# Altium integrated library stm32f4x9.IntLib: 24 symbols
Pins are listed as number, name and electrical type; pins without a type are passive.

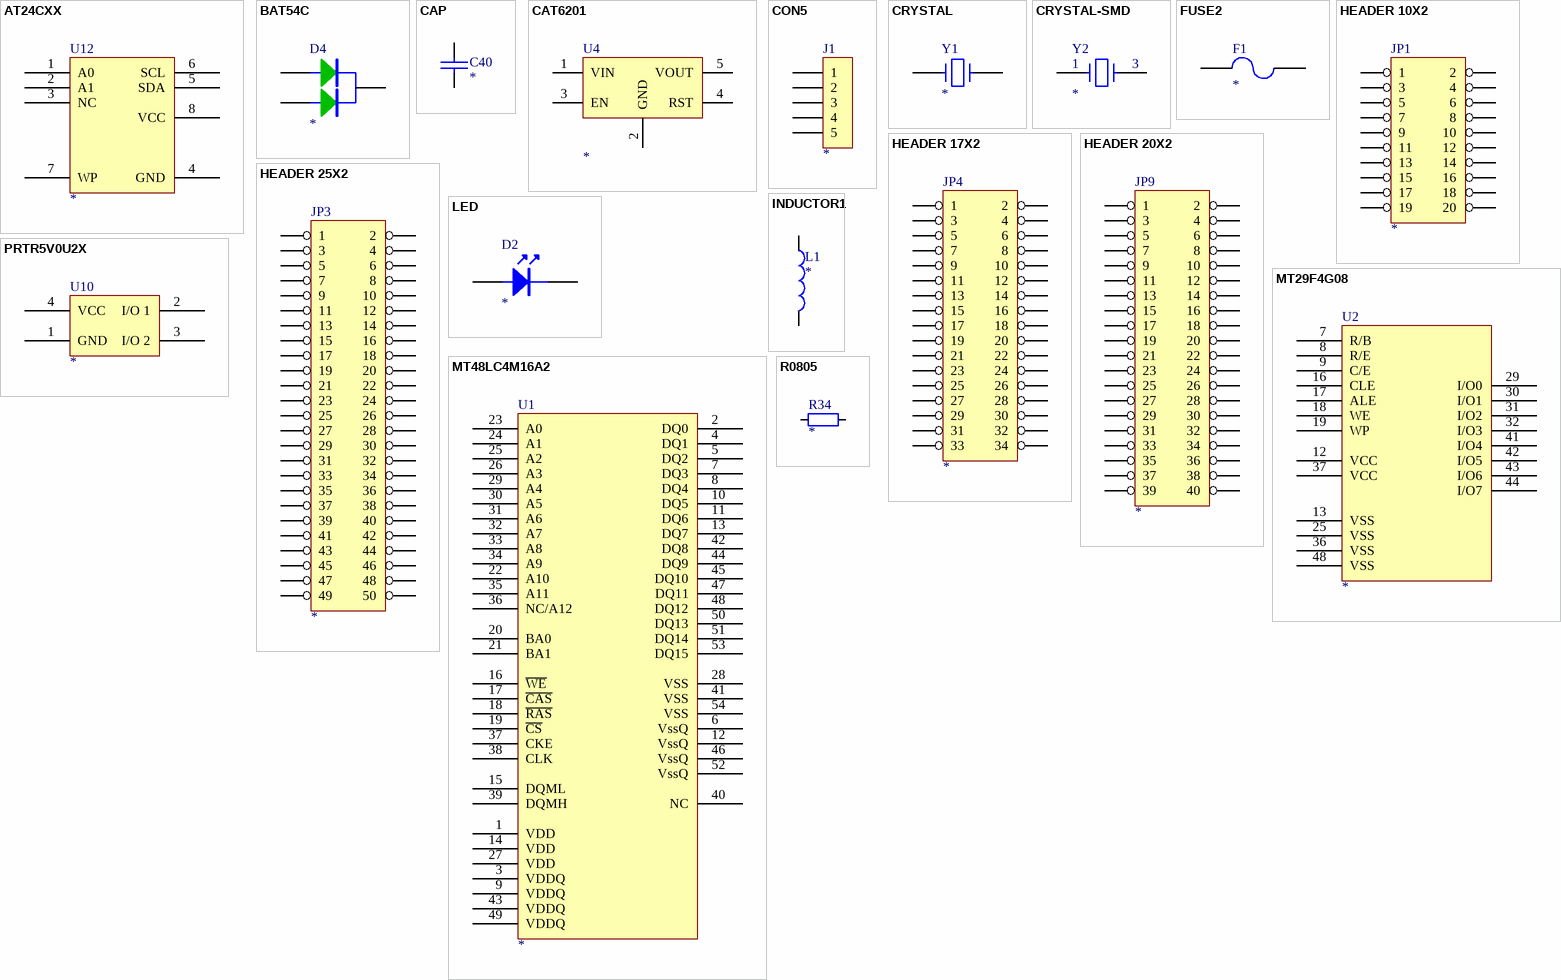
[diagram p0: symbols AT24CXX to R0805]

## AT24CXX
designator U12
footprint SO_8
pins: 1 A0, 2 A1, 3 NC, 4 GND, 5 SDA, 6 SCL, 7 WP, 8 VCC
2 alternate drawings of the same symbol

## BAT54C
designator D4
footprint SOT_23
pins: 1, 2, 3
2 alternate drawings of the same symbol

## CAP
designator C40
footprint 0603_C
pins: 1, 2
2 alternate drawings of the same symbol

## CAT6201
designator U4
CAT6219
footprint Model Name
footprint SOT23-5
pins: 1 VIN, 2 GND, 3 EN, 4 RST, 5 VOUT
2 alternate drawings of the same symbol

## CON5
designator J1
Connector
footprint SIP5
pins: 1, 2, 3, 4, 5
2 alternate drawings of the same symbol

## CRYSTAL
designator Y1
Crystal
footprint FC-135
pins: 1, 2
2 alternate drawings of the same symbol

## CRYSTAL-SMD
designator Y2
Crystal
footprint XTAL-SMD
footprint XTAL-3225
pins: 1, 3
2 alternate drawings of the same symbol

## FUSE2
designator F1
Fuse
footprint 1206_R
pins: 1, 2
2 alternate drawings of the same symbol

## HEADER 10X2
designator JP1
footprint SIP-20-1.27
pins: 1, 2, 3, 4, 5, 6, 7, 8, 9, 10, 11, 12, 13, 14, 15, 16, 17, 18, 19, 20
2 alternate drawings of the same symbol

## HEADER 17X2
designator JP4
footprint SIP-34-1.27
pins: 1, 2, 3, 4, 5, 6, 7, 8, 9, 10, 11, 12, 13, 14, 15, 16, 17, 18, 19, 20, 21, 22, 23, 24, 25, 26, 27, 28, 29, 30, 31, 32, 33, 34
2 alternate drawings of the same symbol

## HEADER 20X2
designator JP9
footprint LCD-40PIN - DOWM
pins: 1, 2, 3, 4, 5, 6, 7, 8, 9, 10, 11, 12, 13, 14, 15, 16, 17, 18, 19, 20, 21, 22, 23, 24, 25, 26, 27, 28, 29, 30, 31, 32, 33, 34, 35, 36, 37, 38, 39, 40
2 alternate drawings of the same symbol

## HEADER 25X2
designator JP3
footprint SIP-50-1.27
pins: 1, 2, 3, 4, 5, 6, 7, 8, 9, 10, 11, 12, 13, 14, 15, 16, 17, 18, 19, 20, 21, 22, 23, 24, 25, 26, 27, 28, 29, 30, 31, 32, 33, 34, 35, 36, 37, 38, 39, 40, 41, 42, 43, 44, 45, 46, 47, 48, 49, 50
2 alternate drawings of the same symbol

## INDUCTOR1
designator L1
footprint 0603_R
pins: 1, 2
2 alternate drawings of the same symbol

## LED
designator D2
footprint LED
footprint 0603_LED
pins: 1 A, 2 K
2 alternate drawings of the same symbol

## MT29F4G08
designator U2
footprint TSOP48P\0.5
pins: 7 R/B, 8 R/E, 9 C/E, 12 VCC, 13 VSS, 16 CLE, 17 ALE, 18 WE, 19 WP, 25 VSS, 29 I/O0, 30 I/O1, 31 I/O2, 32 I/O3, 36 VSS, 37 VCC, 41 I/O4, 42 I/O5, 43 I/O6, 44 I/O7, 48 VSS
2 alternate drawings of the same symbol

## MT48LC4M16A2
designator U1
footprint TSOP54/463
pins: 1 VDD, 2 DQ0, 3 VDDQ, 4 DQ1, 5 DQ2, 6 VssQ, 7 DQ3, 8 DQ4, 9 VDDQ, 10 DQ5, 11 DQ6, 12 VssQ, 13 DQ7, 14 VDD, 15 DQML, 16 ~{WE}, 17 ~{CAS}, 18 ~{RAS}, 19 ~{CS}, 20 BA0, 21 BA1, 22 A10, 23 A0, 24 A1, 25 A2, 26 A3, 27 VDD, 28 VSS, 29 A4, 30 A5, 31 A6, 32 A7, 33 A8, 34 A9, 35 A11, 36 NC/A12, 37 CKE, 38 CLK, 39 DQMH, 40 NC, 41 VSS, 42 DQ8, 43 VDDQ, 44 DQ9, 45 DQ10, 46 VssQ, 47 DQ11, 48 DQ12, 49 VDDQ, 50 DQ13, 51 DQ14, 52 VssQ, 53 DQ15, 54 VSS
2 alternate drawings of the same symbol

## PRTR5V0U2X
designator U10
footprint SOT_143_4L
pins: 1 GND, 2 I/O 1, 3 I/O 2, 4 VCC
2 alternate drawings of the same symbol

## R0805
designator R34
Resistor 0805; Catalog/Distributor: *; Description in catalog: *; ID in cataloge: *; Min. order qty: *; Price per unit: *
footprint 2012[0805]
footprint 0603_R
pins: 1, 2
2 alternate drawings of the same symbol

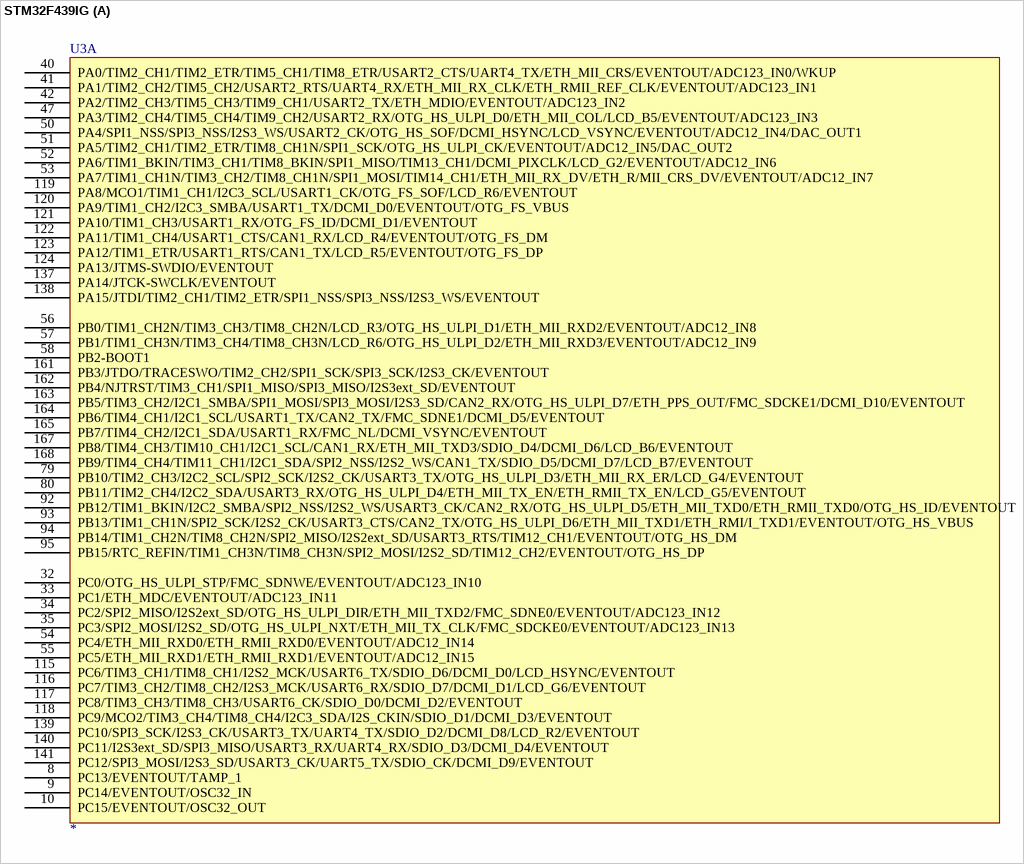
[diagram p1: symbol STM32F439IG]

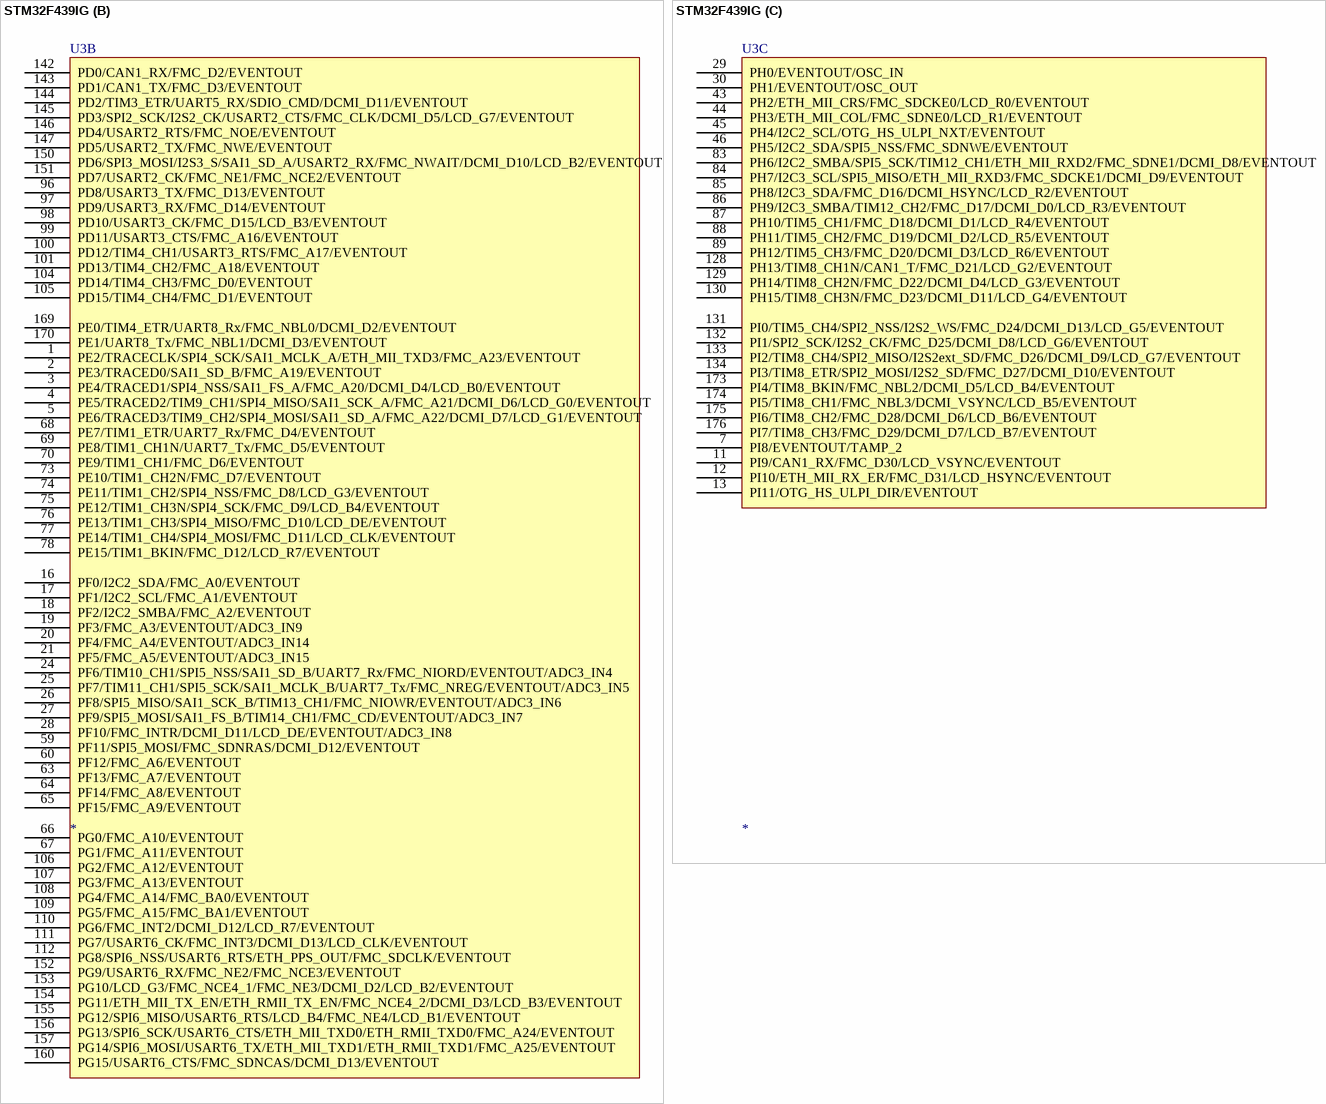
[diagram p2: symbol STM32F439IG]

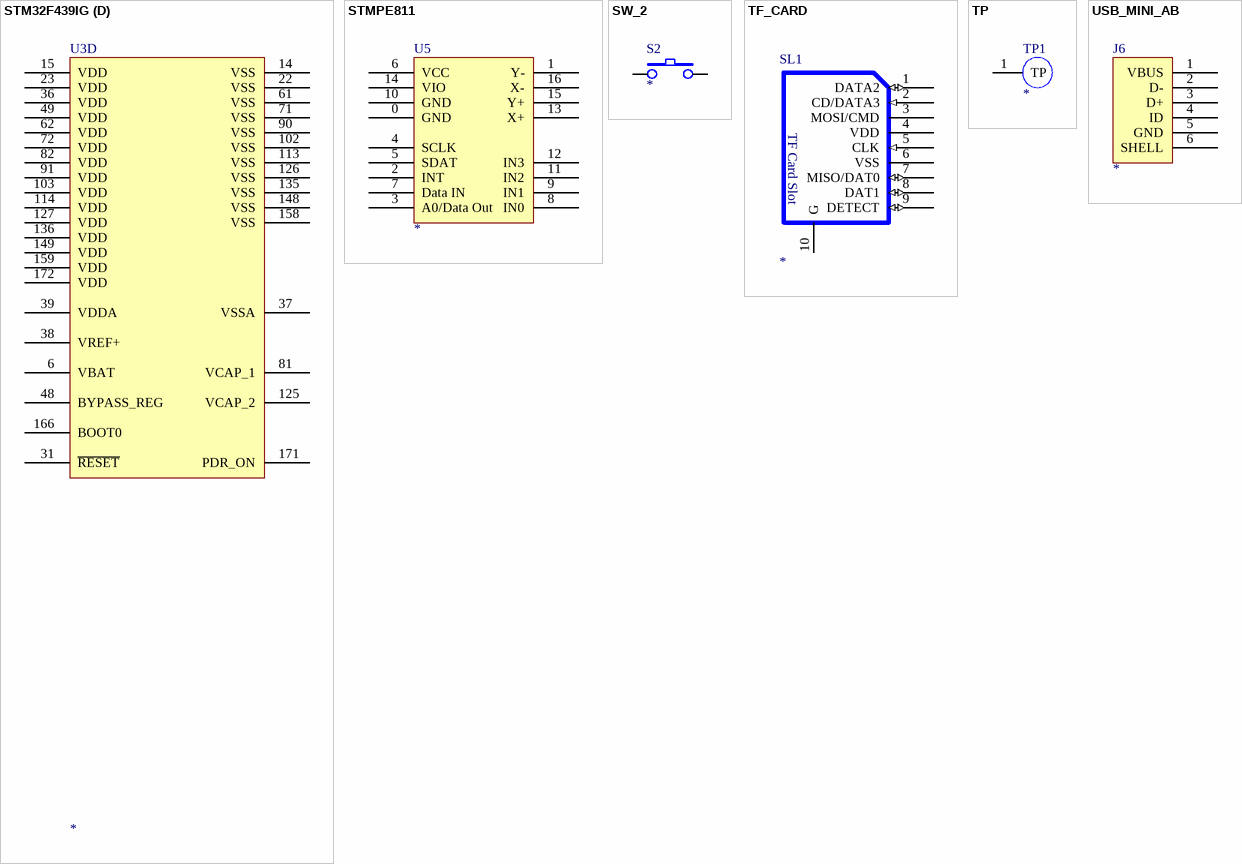
[diagram p3: symbols STM32F439IG to USB_MINI_AB]

## STM32F439IG
designator U3
footprint LQFP176
part A pins: 8 PC13/EVENTOUT/TAMP_1, 9 PC14/EVENTOUT/OSC32_IN, 10 PC15/EVENTOUT/OSC32_OUT, 32 PC0/OTG_HS_ULPI_STP/FMC_SDNWE/EVENTOUT/ADC123_IN10, 33 PC1/ETH_MDC/EVENTOUT/ADC123_IN11, 34 PC2/SPI2_MISO/I2S2ext_SD/OTG_HS_ULPI_DIR/ETH_MII_TXD2/FMC_SDNE0/EVENTOUT/ADC123_IN12, 35 PC3/SPI2_MOSI/I2S2_SD/OTG_HS_ULPI_NXT/ETH_MII_TX_CLK/FMC_SDCKE0/EVENTOUT/ADC123_IN13, 40 PA0/TIM2_CH1/TIM2_ETR/TIM5_CH1/TIM8_ETR/USART2_CTS/UART4_TX/ETH_MII_CRS/EVENTOUT/ADC123_IN0/WKUP, 41 PA1/TIM2_CH2/TIM5_CH2/USART2_RTS/UART4_RX/ETH_MII_RX_CLK/ETH_RMII_REF_CLK/EVENTOUT/ADC123_IN1, 42 PA2/TIM2_CH3/TIM5_CH3/TIM9_CH1/USART2_TX/ETH_MDIO/EVENTOUT/ADC123_IN2, 47 PA3/TIM2_CH4/TIM5_CH4/TIM9_CH2/USART2_RX/OTG_HS_ULPI_D0/ETH_MII_COL/LCD_B5/EVENTOUT/ADC123_IN3, 50 PA4/SPI1_NSS/SPI3_NSS/I2S3_WS/USART2_CK/OTG_HS_SOF/DCMI_HSYNC/LCD_VSYNC/EVENTOUT/ADC12_IN4/DAC_OUT1, 51 PA5/TIM2_CH1/TIM2_ETR/TIM8_CH1N/SPI1_SCK/OTG_HS_ULPI_CK/EVENTOUT/ADC12_IN5/DAC_OUT2, 52 PA6/TIM1_BKIN/TIM3_CH1/TIM8_BKIN/SPI1_MISO/TIM13_CH1/DCMI_PIXCLK/LCD_G2/EVENTOUT/ADC12_IN6, 53 PA7/TIM1_CH1N/TIM3_CH2/TIM8_CH1N/SPI1_MOSI/TIM14_CH1/ETH_MII_RX_DV/ETH_R/MII_CRS_DV/EVENTOUT/ADC12_IN7, 54 PC4/ETH_MII_RXD0/ETH_RMII_RXD0/EVENTOUT/ADC12_IN14, 55 PC5/ETH_MII_RXD1/ETH_RMII_RXD1/EVENTOUT/ADC12_IN15, 56 PB0/TIM1_CH2N/TIM3_CH3/TIM8_CH2N/LCD_R3/OTG_HS_ULPI_D1/ETH_MII_RXD2/EVENTOUT/ADC12_IN8, 57 PB1/TIM1_CH3N/TIM3_CH4/TIM8_CH3N/LCD_R6/OTG_HS_ULPI_D2/ETH_MII_RXD3/EVENTOUT/ADC12_IN9, 58 PB2-BOOT1, 79 PB10/TIM2_CH3/I2C2_SCL/SPI2_SCK/I2S2_CK/USART3_TX/OTG_HS_ULPI_D3/ETH_MII_RX_ER/LCD_G4/EVENTOUT, 80 PB11/TIM2_CH4/I2C2_SDA/USART3_RX/OTG_HS_ULPI_D4/ETH_MII_TX_EN/ETH_RMII_TX_EN/LCD_G5/EVENTOUT, 92 PB12/TIM1_BKIN/I2C2_SMBA/SPI2_NSS/I2S2_WS/USART3_CK/CAN2_RX/OTG_HS_ULPI_D5/ETH_MII_TXD0/ETH_RMII_TXD0/OTG_HS_ID/EVENTOUT, 93 PB13/TIM1_CH1N/SPI2_SCK/I2S2_CK/USART3_CTS/CAN2_TX/OTG_HS_ULPI_D6/ETH_MII_TXD1/ETH_RMI/I_TXD1/EVENTOUT/OTG_HS_VBUS, 94 PB14/TIM1_CH2N/TIM8_CH2N/SPI2_MISO/I2S2ext_SD/USART3_RTS/TIM12_CH1/EVENTOUT/OTG_HS_DM, 95 PB15/RTC_REFIN/TIM1_CH3N/TIM8_CH3N/SPI2_MOSI/I2S2_SD/TIM12_CH2/EVENTOUT/OTG_HS_DP, 115 PC6/TIM3_CH1/TIM8_CH1/I2S2_MCK/USART6_TX/SDIO_D6/DCMI_D0/LCD_HSYNC/EVENTOUT, 116 PC7/TIM3_CH2/TIM8_CH2/I2S3_MCK/USART6_RX/SDIO_D7/DCMI_D1/LCD_G6/EVENTOUT, 117 PC8/TIM3_CH3/TIM8_CH3/USART6_CK/SDIO_D0/DCMI_D2/EVENTOUT, 118 PC9/MCO2/TIM3_CH4/TIM8_CH4/I2C3_SDA/I2S_CKIN/SDIO_D1/DCMI_D3/EVENTOUT, 119 PA8/MCO1/TIM1_CH1/I2C3_SCL/USART1_CK/OTG_FS_SOF/LCD_R6/EVENTOUT, 120 PA9/TIM1_CH2/I2C3_SMBA/USART1_TX/DCMI_D0/EVENTOUT/OTG_FS_VBUS, 121 PA10/TIM1_CH3/USART1_RX/OTG_FS_ID/DCMI_D1/EVENTOUT, 122 PA11/TIM1_CH4/USART1_CTS/CAN1_RX/LCD_R4/EVENTOUT/OTG_FS_DM, 123 PA12/TIM1_ETR/USART1_RTS/CAN1_TX/LCD_R5/EVENTOUT/OTG_FS_DP, 124 PA13/JTMS-SWDIO/EVENTOUT, 137 PA14/JTCK-SWCLK/EVENTOUT, 138 PA15/JTDI/TIM2_CH1/TIM2_ETR/SPI1_NSS/SPI3_NSS/I2S3_WS/EVENTOUT, 139 PC10/SPI3_SCK/I2S3_CK/USART3_TX/UART4_TX/SDIO_D2/DCMI_D8/LCD_R2/EVENTOUT, 140 PC11/I2S3ext_SD/SPI3_MISO/USART3_RX/UART4_RX/SDIO_D3/DCMI_D4/EVENTOUT, 141 PC12/SPI3_MOSI/I2S3_SD/USART3_CK/UART5_TX/SDIO_CK/DCMI_D9/EVENTOUT, 161 PB3/JTDO/TRACESWO/TIM2_CH2/SPI1_SCK/SPI3_SCK/I2S3_CK/EVENTOUT, 162 PB4/NJTRST/TIM3_CH1/SPI1_MISO/SPI3_MISO/I2S3ext_SD/EVENTOUT, 163 PB5/TIM3_CH2/I2C1_SMBA/SPI1_MOSI/SPI3_MOSI/I2S3_SD/CAN2_RX/OTG_HS_ULPI_D7/ETH_PPS_OUT/FMC_SDCKE1/DCMI_D10/EVENTOUT, 164 PB6/TIM4_CH1/I2C1_SCL/USART1_TX/CAN2_TX/FMC_SDNE1/DCMI_D5/EVENTOUT, 165 PB7/TIM4_CH2/I2C1_SDA/USART1_RX/FMC_NL/DCMI_VSYNC/EVENTOUT, 167 PB8/TIM4_CH3/TIM10_CH1/I2C1_SCL/CAN1_RX/ETH_MII_TXD3/SDIO_D4/DCMI_D6/LCD_B6/EVENTOUT, 168 PB9/TIM4_CH4/TIM11_CH1/I2C1_SDA/SPI2_NSS/I2S2_WS/CAN1_TX/SDIO_D5/DCMI_D7/LCD_B7/EVENTOUT
part B pins: 1 PE2/TRACECLK/SPI4_SCK/SAI1_MCLK_A/ETH_MII_TXD3/FMC_A23/EVENTOUT, 2 PE3/TRACED0/SAI1_SD_B/FMC_A19/EVENTOUT, 3 PE4/TRACED1/SPI4_NSS/SAI1_FS_A/FMC_A20/DCMI_D4/LCD_B0/EVENTOUT, 4 PE5/TRACED2/TIM9_CH1/SPI4_MISO/SAI1_SCK_A/FMC_A21/DCMI_D6/LCD_G0/EVENTOUT, 5 PE6/TRACED3/TIM9_CH2/SPI4_MOSI/SAI1_SD_A/FMC_A22/DCMI_D7/LCD_G1/EVENTOUT, 16 PF0/I2C2_SDA/FMC_A0/EVENTOUT, 17 PF1/I2C2_SCL/FMC_A1/EVENTOUT, 18 PF2/I2C2_SMBA/FMC_A2/EVENTOUT, 19 PF3/FMC_A3/EVENTOUT/ADC3_IN9, 20 PF4/FMC_A4/EVENTOUT/ADC3_IN14, 21 PF5/FMC_A5/EVENTOUT/ADC3_IN15, 24 PF6/TIM10_CH1/SPI5_NSS/SAI1_SD_B/UART7_Rx/FMC_NIORD/EVENTOUT/ADC3_IN4, 25 PF7/TIM11_CH1/SPI5_SCK/SAI1_MCLK_B/UART7_Tx/FMC_NREG/EVENTOUT/ADC3_IN5, 26 PF8/SPI5_MISO/SAI1_SCK_B/TIM13_CH1/FMC_NIOWR/EVENTOUT/ADC3_IN6, 27 PF9/SPI5_MOSI/SAI1_FS_B/TIM14_CH1/FMC_CD/EVENTOUT/ADC3_IN7, 28 PF10/FMC_INTR/DCMI_D11/LCD_DE/EVENTOUT/ADC3_IN8, 59 PF11/SPI5_MOSI/FMC_SDNRAS/DCMI_D12/EVENTOUT, 60 PF12/FMC_A6/EVENTOUT, 63 PF13/FMC_A7/EVENTOUT, 64 PF14/FMC_A8/EVENTOUT, 65 PF15/FMC_A9/EVENTOUT, 66 PG0/FMC_A10/EVENTOUT, 67 PG1/FMC_A11/EVENTOUT, 68 PE7/TIM1_ETR/UART7_Rx/FMC_D4/EVENTOUT, 69 PE8/TIM1_CH1N/UART7_Tx/FMC_D5/EVENTOUT, 70 PE9/TIM1_CH1/FMC_D6/EVENTOUT, 73 PE10/TIM1_CH2N/FMC_D7/EVENTOUT, 74 PE11/TIM1_CH2/SPI4_NSS/FMC_D8/LCD_G3/EVENTOUT, 75 PE12/TIM1_CH3N/SPI4_SCK/FMC_D9/LCD_B4/EVENTOUT, 76 PE13/TIM1_CH3/SPI4_MISO/FMC_D10/LCD_DE/EVENTOUT, 77 PE14/TIM1_CH4/SPI4_MOSI/FMC_D11/LCD_CLK/EVENTOUT, 78 PE15/TIM1_BKIN/FMC_D12/LCD_R7/EVENTOUT, 96 PD8/USART3_TX/FMC_D13/EVENTOUT, 97 PD9/USART3_RX/FMC_D14/EVENTOUT, 98 PD10/USART3_CK/FMC_D15/LCD_B3/EVENTOUT, 99 PD11/USART3_CTS/FMC_A16/EVENTOUT, 100 PD12/TIM4_CH1/USART3_RTS/FMC_A17/EVENTOUT, 101 PD13/TIM4_CH2/FMC_A18/EVENTOUT, 104 PD14/TIM4_CH3/FMC_D0/EVENTOUT, 105 PD15/TIM4_CH4/FMC_D1/EVENTOUT, 106 PG2/FMC_A12/EVENTOUT, 107 PG3/FMC_A13/EVENTOUT, 108 PG4/FMC_A14/FMC_BA0/EVENTOUT, 109 PG5/FMC_A15/FMC_BA1/EVENTOUT, 110 PG6/FMC_INT2/DCMI_D12/LCD_R7/EVENTOUT, 111 PG7/USART6_CK/FMC_INT3/DCMI_D13/LCD_CLK/EVENTOUT, 112 PG8/SPI6_NSS/USART6_RTS/ETH_PPS_OUT/FMC_SDCLK/EVENTOUT, 142 PD0/CAN1_RX/FMC_D2/EVENTOUT, 143 PD1/CAN1_TX/FMC_D3/EVENTOUT, 144 PD2/TIM3_ETR/UART5_RX/SDIO_CMD/DCMI_D11/EVENTOUT, 145 PD3/SPI2_SCK/I2S2_CK/USART2_CTS/FMC_CLK/DCMI_D5/LCD_G7/EVENTOUT, 146 PD4/USART2_RTS/FMC_NOE/EVENTOUT, 147 PD5/USART2_TX/FMC_NWE/EVENTOUT, 150 PD6/SPI3_MOSI/I2S3_S/SAI1_SD_A/USART2_RX/FMC_NWAIT/DCMI_D10/LCD_B2/EVENTOUT, 151 PD7/USART2_CK/FMC_NE1/FMC_NCE2/EVENTOUT, 152 PG9/USART6_RX/FMC_NE2/FMC_NCE3/EVENTOUT, 153 PG10/LCD_G3/FMC_NCE4_1/FMC_NE3/DCMI_D2/LCD_B2/EVENTOUT, 154 PG11/ETH_MII_TX_EN/ETH_RMII_TX_EN/FMC_NCE4_2/DCMI_D3/LCD_B3/EVENTOUT, 155 PG12/SPI6_MISO/USART6_RTS/LCD_B4/FMC_NE4/LCD_B1/EVENTOUT, 156 PG13/SPI6_SCK/USART6_CTS/ETH_MII_TXD0/ETH_RMII_TXD0/FMC_A24/EVENTOUT, 157 PG14/SPI6_MOSI/USART6_TX/ETH_MII_TXD1/ETH_RMII_TXD1/FMC_A25/EVENTOUT, 160 PG15/USART6_CTS/FMC_SDNCAS/DCMI_D13/EVENTOUT, 169 PE0/TIM4_ETR/UART8_Rx/FMC_NBL0/DCMI_D2/EVENTOUT, 170 PE1/UART8_Tx/FMC_NBL1/DCMI_D3/EVENTOUT
part C pins: 7 PI8/EVENTOUT/TAMP_2, 11 PI9/CAN1_RX/FMC_D30/LCD_VSYNC/EVENTOUT, 12 PI10/ETH_MII_RX_ER/FMC_D31/LCD_HSYNC/EVENTOUT, 13 PI11/OTG_HS_ULPI_DIR/EVENTOUT, 29 PH0/EVENTOUT/OSC_IN, 30 PH1/EVENTOUT/OSC_OUT, 43 PH2/ETH_MII_CRS/FMC_SDCKE0/LCD_R0/EVENTOUT, 44 PH3/ETH_MII_COL/FMC_SDNE0/LCD_R1/EVENTOUT, 45 PH4/I2C2_SCL/OTG_HS_ULPI_NXT/EVENTOUT, 46 PH5/I2C2_SDA/SPI5_NSS/FMC_SDNWE/EVENTOUT, 83 PH6/I2C2_SMBA/SPI5_SCK/TIM12_CH1/ETH_MII_RXD2/FMC_SDNE1/DCMI_D8/EVENTOUT, 84 PH7/I2C3_SCL/SPI5_MISO/ETH_MII_RXD3/FMC_SDCKE1/DCMI_D9/EVENTOUT, 85 PH8/I2C3_SDA/FMC_D16/DCMI_HSYNC/LCD_R2/EVENTOUT, 86 PH9/I2C3_SMBA/TIM12_CH2/FMC_D17/DCMI_D0/LCD_R3/EVENTOUT, 87 PH10/TIM5_CH1/FMC_D18/DCMI_D1/LCD_R4/EVENTOUT, 88 PH11/TIM5_CH2/FMC_D19/DCMI_D2/LCD_R5/EVENTOUT, 89 PH12/TIM5_CH3/FMC_D20/DCMI_D3/LCD_R6/EVENTOUT, 128 PH13/TIM8_CH1N/CAN1_T/FMC_D21/LCD_G2/EVENTOUT, 129 PH14/TIM8_CH2N/FMC_D22/DCMI_D4/LCD_G3/EVENTOUT, 130 PH15/TIM8_CH3N/FMC_D23/DCMI_D11/LCD_G4/EVENTOUT, 131 PI0/TIM5_CH4/SPI2_NSS/I2S2_WS/FMC_D24/DCMI_D13/LCD_G5/EVENTOUT, 132 PI1/SPI2_SCK/I2S2_CK/FMC_D25/DCMI_D8/LCD_G6/EVENTOUT, 133 PI2/TIM8_CH4/SPI2_MISO/I2S2ext_SD/FMC_D26/DCMI_D9/LCD_G7/EVENTOUT, 134 PI3/TIM8_ETR/SPI2_MOSI/I2S2_SD/FMC_D27/DCMI_D10/EVENTOUT, 173 PI4/TIM8_BKIN/FMC_NBL2/DCMI_D5/LCD_B4/EVENTOUT, 174 PI5/TIM8_CH1/FMC_NBL3/DCMI_VSYNC/LCD_B5/EVENTOUT, 175 PI6/TIM8_CH2/FMC_D28/DCMI_D6/LCD_B6/EVENTOUT, 176 PI7/TIM8_CH3/FMC_D29/DCMI_D7/LCD_B7/EVENTOUT
part D pins: 6 VBAT, 14 VSS, 15 VDD, 22 VSS, 23 VDD, 31 ~{RESET}, 36 VDD, 37 VSSA, 38 VREF+, 39 VDDA, 48 BYPASS_REG, 49 VDD, 61 VSS, 62 VDD, 71 VSS, 72 VDD, 81 VCAP_1, 82 VDD, 90 VSS, 91 VDD, 102 VSS, 103 VDD, 113 VSS, 114 VDD, 125 VCAP_2, 126 VSS, 127 VDD, 135 VSS, 136 VDD, 148 VSS, 149 VDD, 158 VSS, 159 VDD, 166 BOOT0, 171 PDR_ON, 172 VDD
2 alternate drawings of the same symbol

## STMPE811
designator U5
footprint QFN16(3X3)
pins: 0 GND, 1 Y-, 2 INT, 3 A0/Data Out, 4 SCLK, 5 SDAT, 6 VCC, 7 Data IN, 8 IN0, 9 IN1, 10 GND, 11 IN2, 12 IN3, 13 X+, 14 VIO, 15 Y+, 16 X-
2 alternate drawings of the same symbol

## SW_2
designator S2
Text Field1: 30; Text Field2: 20
footprint KEY-SMD
pins: 1, 2
2 alternate drawings of the same symbol

## TF_CARD
designator SL1
footprint SD-MMC-11
footprint SDCONNECT
footprint TF-CARD
pins: 1 DATA2 (io), 2 CD/DATA3 (in), 3 MOSI/CMD, 4 VDD (power), 5 CLK (in), 6 VSS (power), 7 MISO/DAT0 (io), 8 DAT1 (io), 9 DETECT (io), 10 G
2 alternate drawings of the same symbol
text: TF Card Slot

## TP
designator TP1
footprint TP-SMD
pins: 1 TP
2 alternate drawings of the same symbol

## USB_MINI_AB
designator J6
footprint USB_MINI
pins: 1 VBUS (power), 2 D-, 3 D+, 4 ID (power), 5 GND, 6 SHELL
2 alternate drawings of the same symbol